# EAGLE library part IS64C5128AL-* (library memory-issi-asynsram)
512k x 8 high- speed CMOS static RAM 12ns access time 5V power supply
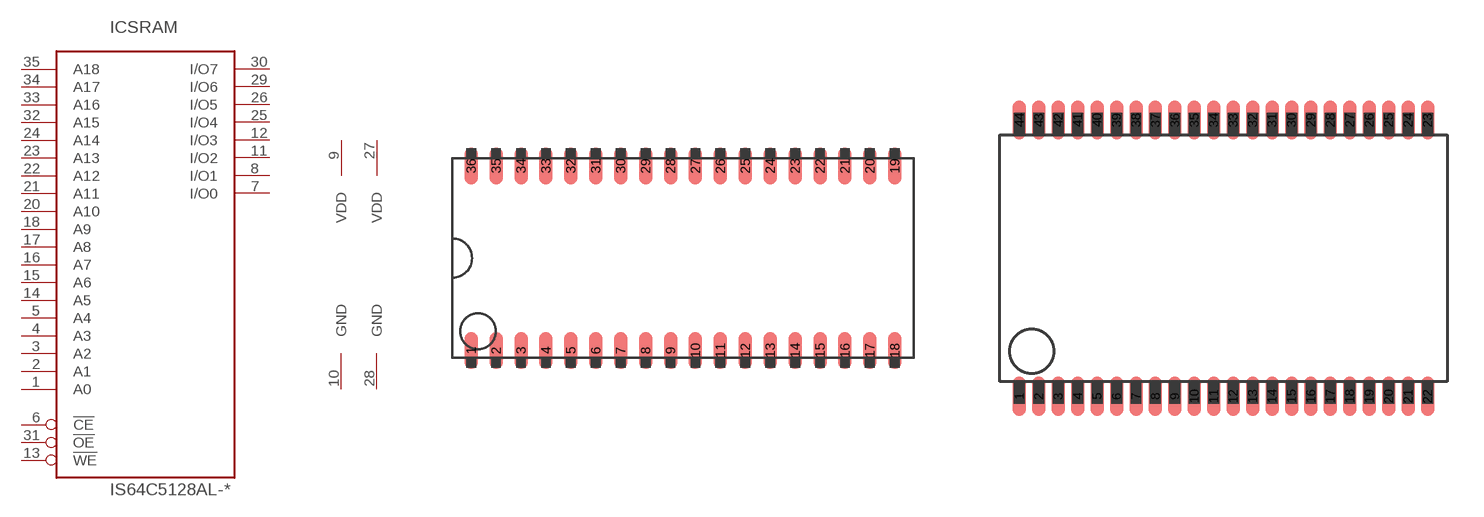
[diagram p37: symbol with the pads of SOJ36-400MIL; footprints SOJ36-400MIL, TSOP-II-44]

Designator prefix IC; gates SRAM=512KX8_TYP1 PWR=PWR_VDD2_GND2

## IS64C5128AL-12K  [SOJ36-400MIL]
1  SRAM:A0  in
2  SRAM:A1  in
3  SRAM:A2  in
4  SRAM:A3  in
5  SRAM:A4  in
6  SRAM:!CE  in
7  SRAM:I/O0  hiz
8  SRAM:I/O1  hiz
9  PWR:VDD  pwr
10  PWR:GND  pwr
11  SRAM:I/O2  hiz
12  SRAM:I/O3  hiz
13  SRAM:!WE  in
14  SRAM:A5  in
15  SRAM:A6  in
16  SRAM:A7  in
17  SRAM:A8  in
18  SRAM:A9  in
20  SRAM:A10  in
21  SRAM:A11  in
22  SRAM:A12  in
23  SRAM:A13  in
24  SRAM:A14  in
25  SRAM:I/O4  hiz
26  SRAM:I/O5  hiz
27  PWR:VDD  pwr
28  PWR:GND  pwr
29  SRAM:I/O6  hiz
30  SRAM:I/O7  hiz
31  SRAM:!OE  in
32  SRAM:A15  in
33  SRAM:A16  in
34  SRAM:A17  in
35  SRAM:A18  in

## IS64C5128AL-12CT  [TSOP-II-44]
3  SRAM:A0  in
4  SRAM:A1  in
5  SRAM:A2  in
6  SRAM:A3  in
7  SRAM:A4  in
8  SRAM:!CE  in
9  SRAM:I/O0  hiz
10  SRAM:I/O1  hiz
11  PWR:VDD  pwr
12  PWR:GND  pwr
13  SRAM:I/O2  hiz
14  SRAM:I/O3  hiz
15  SRAM:!WE  in
16  SRAM:A5  in
17  SRAM:A6  in
18  SRAM:A7  in
19  SRAM:A8  in
20  SRAM:A9  in
26  SRAM:A10  in
27  SRAM:A11  in
28  SRAM:A12  in
29  SRAM:A13  in
30  SRAM:A14  in
31  SRAM:I/O4  hiz
32  SRAM:I/O5  hiz
33  PWR:VDD  pwr
34  PWR:GND  pwr
35  SRAM:I/O6  hiz
36  SRAM:I/O7  hiz
37  SRAM:!OE  in
38  SRAM:A15  in
39  SRAM:A16  in
40  SRAM:A17  in
41  SRAM:A18  in

## Footprint SOJ36-400MIL (pad centres in mm)
SOJ36-400mil 36-pin small-outline J-lead
smd 0.7 x 1.9: 1 -10.795,-4.7; 2 -9.525,-4.7; 3 -8.255,-4.7; 4 -6.985,-4.7; 5 -5.715,-4.7; 6 -4.445,-4.7; 7 -3.175,-4.7; 8 -1.905,-4.7; 9 -0.635,-4.7; 10 0.635,-4.7; 11 1.905,-4.7; 12 3.175,-4.7; 13 4.445,-4.7; 14 5.715,-4.7; 15 6.985,-4.7; 16 8.255,-4.7; 17 9.525,-4.7; 18 10.795,-4.7; 19 10.795,4.7; 20 9.525,4.7; 21 8.255,4.7; 22 6.985,4.7; 23 5.715,4.7; 24 4.445,4.7; 25 3.175,4.7; 26 1.905,4.7; 27 0.635,4.7; 28 -0.635,4.7; 29 -1.905,4.7; 30 -3.175,4.7; 31 -4.445,4.7; 32 -5.715,4.7; 33 -6.985,4.7; 34 -8.255,4.7; 35 -9.525,4.7; 36 -10.795,4.7

## Footprint TSOP-II-44 (pad centres in mm)
TSOP-II-44 44-pin thin small-outline package, Typ II
smd 0.55 x 1.6: 1 -8.4,-5.68; 2 -7.6,-5.68; 3 -6.8,-5.68; 4 -6,-5.68; 5 -5.2,-5.68; 6 -4.4,-5.68; 7 -3.6,-5.68; 8 -2.8,-5.68; 9 -2,-5.68; 10 -1.2,-5.68; 11 -0.4,-5.68; 12 0.4,-5.68; 13 1.2,-5.68; 14 2,-5.68; 15 2.8,-5.68; 16 3.6,-5.68; 17 4.4,-5.68; 18 5.2,-5.68; 19 6,-5.68; 20 6.8,-5.68; 21 7.6,-5.68; 22 8.4,-5.68; 23 8.4,5.68; 24 7.6,5.68; 25 6.8,5.68; 26 6,5.68; 27 5.2,5.68; 28 4.4,5.68; 29 3.6,5.68; 30 2.8,5.68; 31 2,5.68; 32 1.2,5.68; 33 0.4,5.68; 34 -0.4,5.68; 35 -1.2,5.68; 36 -2,5.68; 37 -2.8,5.68; 38 -3.6,5.68; 39 -4.4,5.68; 40 -5.2,5.68; 41 -6,5.68; 42 -6.8,5.68; 43 -7.6,5.68; 44 -8.4,5.68